# Altium integrated library BSZ340N08NS3_G.IntLib: 1 symbol
Pins are listed as number, name and electrical type; pins without a type are passive.

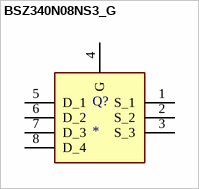
[diagram p0: symbol BSZ340N08NS3_G]

## BSZ340N08NS3_G
designator Q?
MOSFET (N-Channel); Manufacturer_Name: Infineon; Manufacturer_Part_Number: BSZ340N08NS3 G; Datasheet Link: http://www.infineon.com/dgdl/Infineon-BSZ340N08NS3G-DS-v02_03-en.pdf?fileId=db3a30431ff9881501206626660b6c72; Mouser Part Number: 726-BSZ340N08NS3G; Mouser Price/Stock: https://www.mouser.com/Search/Refine.aspx?Keyword=726-BSZ340N08NS3G
footprint BSZ180P03NS3EGATMA1
pins: 1 S_1, 2 S_2, 3 S_3, 4 G, 5 D_1, 6 D_2, 7 D_3, 8 D_4